# EAGLE library part BUCK_CONVERTER1 (library SOP65P640X120-17N)
Used for IRISC, buck converter. Input: Supply voltage: 3.5 - 36 V Output: Current: 0.5 A Operation temperature: -40 - 125 celcius
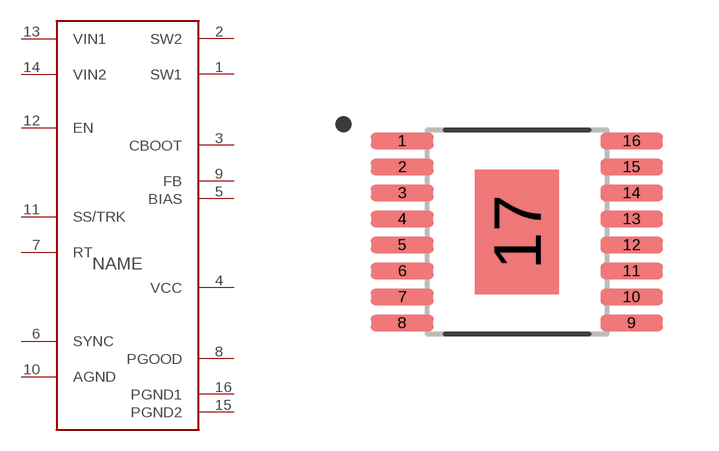
[diagram p0: symbol with the pads of SOP65P640X120-17N; footprint SOP65P640X120-17N]

Designator prefix U1

## BUCK_CONVERTER1  [SOP65P640X120-17N]
1  SW1  pwr
2  SW2  pwr
3  CBOOT  pas
4  VCC  pwr
5  BIAS  pas
6  SYNC  sup
7  RT  pas
8  PGOOD  oc
9  FB  pwr
10  AGND  sup
11  SS/TRK  pas
12  EN
13  VIN1  pwr
14  VIN2
15  PGND2  pwr
16  PGND1

## Footprint SOP65P640X120-17N (pad centres in mm)
smd 1.57 x 0.41: 1 -2.87,2.275; 2 -2.87,1.625; 3 -2.87,0.975; 4 -2.87,0.325; 5 -2.87,-0.325; 6 -2.87,-0.975; 7 -2.87,-1.625; 8 -2.87,-2.275; 9 2.87,-2.275; 10 2.87,-1.625; 11 2.87,-0.975; 12 2.87,-0.325; 13 2.87,0.325; 14 2.87,0.975; 15 2.87,1.625; 16 2.87,2.275
smd 2.105 x 3.115: 17 0,0